# EAGLE library part TS3L501E (library TS3L501E)
TS3L501E 8+3 SPDT Mux for 10/100/1000 Ethernet + 3 LEDs
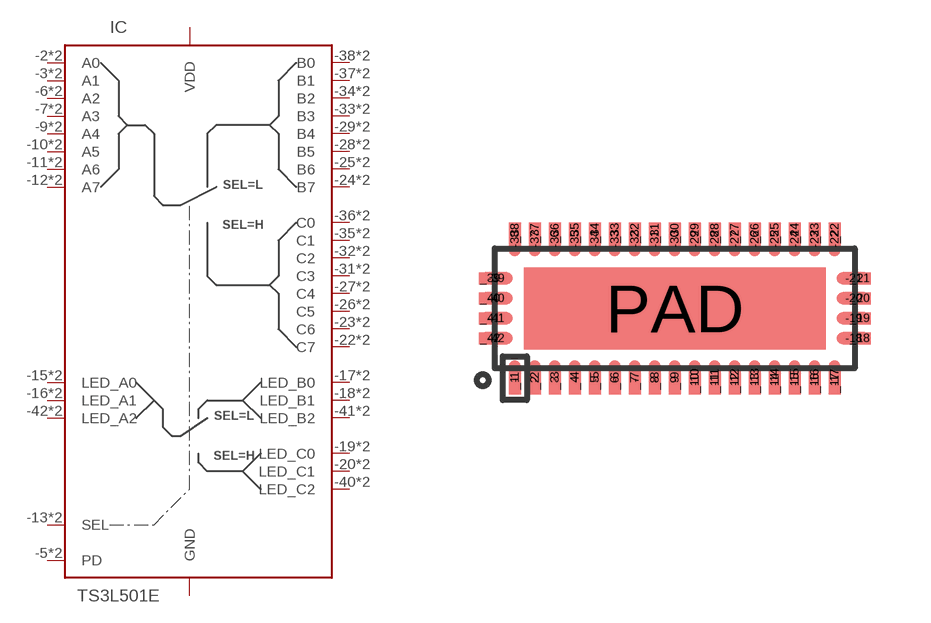
[diagram p0: symbol with the pads of WQFN-42; footprint WQFN-42]

Designator prefix IC

## TS3L501E  [WQFN-42]
-1  VDD  pwr
-2  A0
-3  A1
-4  VDD  pwr
-5  PD  in
-6  A2
-7  A3
-8  VDD  pwr
-9  A4
-10  A5
-11  A6
-12  A7
-13  SEL  in
-14  VDD  pwr
-15  LED_A0
-16  LED_A1
-17  LED_B0
-18  LED_B1
-19  LED_C0
-20  LED_C1
-21  VDD  pwr
-22  C7
-23  C6
-24  B7
-25  B6
-26  C5
-27  C4
-28  B5
-29  B4
-30  VDD  pwr
-31  C3
-32  C2
-33  B3
-34  B2
-35  C1
-36  C0
-37  B1
-38  B0
-39  VDD  pwr
-40  LED_C2
-41  LED_B2
-42  LED_A2
_1  VDD  pwr
_2  A0
_3  A1
_4  VDD  pwr
_5  PD  in
_6  A2
_7  A3
_8  VDD  pwr
_9  A4
_10  A5
_11  A6
_12  A7
_13  SEL  in
_14  VDD  pwr
_15  LED_A0
_16  LED_A1
_17  LED_B0
_18  LED_B1
_19  LED_C0
_20  LED_C1
_21  VDD  pwr
_22  C7
_23  C6
_24  B7
_25  B6
_26  C5
_27  C4
_28  B5
_29  B4
_30  VDD  pwr
_31  C3
_32  C2
_33  B3
_34  B2
_35  C1
_36  C0
_37  B1
_38  B0
_39  VDD  pwr
_40  LED_C2
_41  LED_B2
_42  LED_A2
PAD  GND  pwr

## Footprint WQFN-42 (pad centres in mm)
smd 0.3 x 0.85: -1 -4,-1.725; -2 -3.5,-1.725; -3 -3,-1.725; -4 -2.5,-1.725; -5 -2,-1.725; -6 -1.5,-1.725; -7 -1,-1.725; -8 -0.5,-1.725; -9 0,-1.725; -10 0.5,-1.725; -11 1,-1.725; -12 1.5,-1.725; -13 2,-1.725; -14 2.5,-1.725; -15 3,-1.725; -16 3.5,-1.725; -17 4,-1.725; -22 4,1.725; -23 3.5,1.725; -24 3,1.725; -25 2.5,1.725; -26 2,1.725; -27 1.5,1.725; -28 1,1.725; -29 0.5,1.725; -30 0,1.725; -31 -0.5,1.725; -32 -1,1.725; -33 -1.5,1.725; -34 -2,1.725; -35 -2.5,1.725; -36 -3,1.725; -37 -3.5,1.725; -38 -4,1.725
smd 0.85 x 0.3: -18 4.475,-0.75; -19 4.475,-0.25; -20 4.475,0.25; -21 4.475,0.75; -39 -4.475,0.75; -40 -4.475,0.25; -41 -4.475,-0.25; -42 -4.475,-0.75
smd 0.3 x 0.55: _1 -4,-1.875; _2 -3.5,-1.875; _3 -3,-1.875; _4 -2.5,-1.875; _5 -2,-1.875; _6 -1.5,-1.875; _7 -1,-1.875; _8 -0.5,-1.875; _9 0,-1.875; _10 0.5,-1.875; _11 1,-1.875; _12 1.5,-1.875; _13 2,-1.875; _14 2.5,-1.875; _15 3,-1.875; _16 3.5,-1.875; _17 4,-1.875; _22 4,1.875; _23 3.5,1.875; _24 3,1.875; _25 2.5,1.875; _26 2,1.875; _27 1.5,1.875; _28 1,1.875; _29 0.5,1.875; _30 0,1.875; _31 -0.5,1.875; _32 -1,1.875; _33 -1.5,1.875; _34 -2,1.875; _35 -2.5,1.875; _36 -3,1.875; _37 -3.5,1.875; _38 -4,1.875
smd 0.55 x 0.3: _18 4.625,-0.75; _19 4.625,-0.25; _20 4.625,0.25; _21 4.625,0.75; _39 -4.625,0.75; _40 -4.625,0.25; _41 -4.625,-0.25; _42 -4.625,-0.75
smd 7.55 x 2.05: PAD 0,0